# Altium schematic symbol library CONTROLLER_SCH_LIB.SchLib: 18 symbols
Pins are listed as number, name and electrical type; pins without a type are passive.

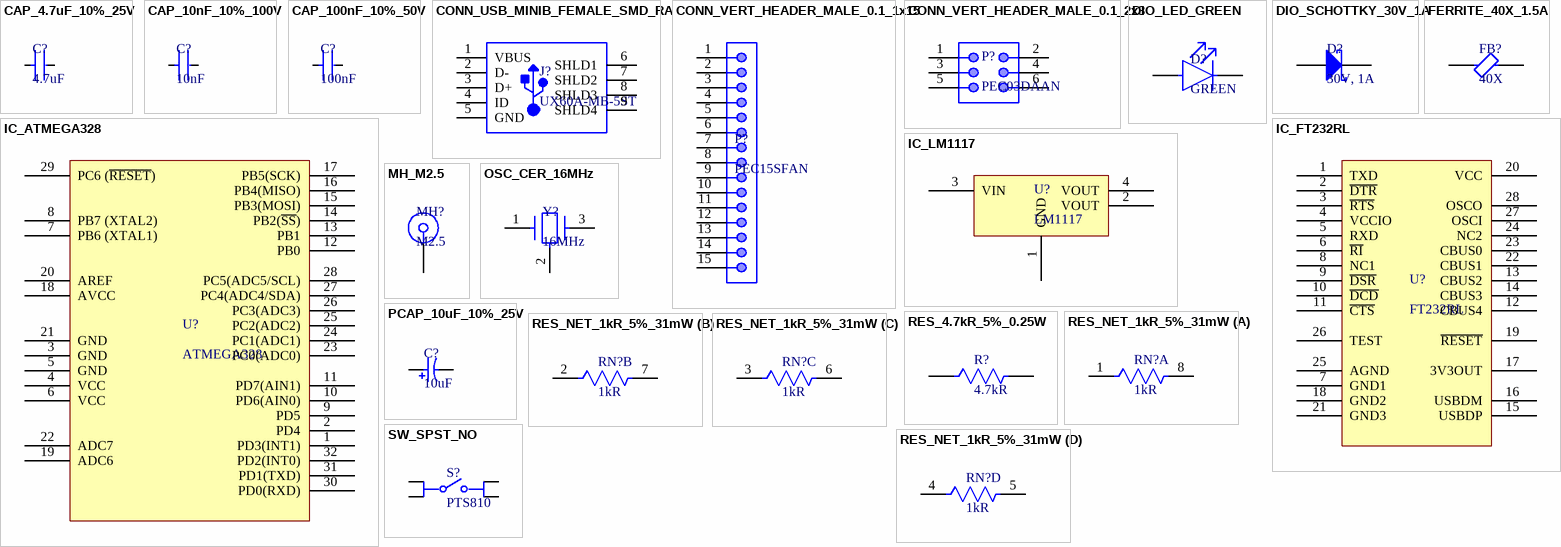
[diagram p0: symbols CAP_4.7uF_10%_25V to SW_SPST_NO]

## CAP_4.7uF_10%_25V
designator C?, comment 4.7uF
±10% 25V Ceramic Capacitor X5R 0603 (1608 Metric); Manufacturer: Murata Electronics; Manufacturer Part Number: GRT188R61E475KE13D; Supplier 1: Digi-Key; Supplier Part Number 1: 490-12328-1-ND; Case/Package: 0603 (1608 Metric)
footprint CAP_0603_MRT_GRT (Capacitor)
pins: 1, 2

## CAP_10nF_10%_100V
designator C?, comment 10nF
±10% 100V Ceramic Capacitor X7R 0603 (1608 Metric); Manufacturer: Murata Electronics; Manufacturer Part Number: GCM188R72A103KA37D; Supplier 1: Digi-Key; Supplier Part Number 1: 490-4781-1-ND; Case/Package: 0603 (1608 Metric)
footprint CAP_0603_MRT_GCM (Capacitor)
pins: 1, 2

## CAP_100nF_10%_50V
designator C?, comment 100nF
±10% 50V Ceramic Capacitor X7R 0603 (1608 Metric); Manufacturer: TDK Corporation; Manufacturer Part Number: CGA3E2X7R1H104K080AA; Supplier 1: Digi-Key; Supplier Part Number 1: 445-5666-1-ND; Case/Package: 0603 (1608 Metric)
footprint CAP_0603_TDK_CGA3 (Capacitor)
pins: 1, 2

## CONN_USB_MINIB_FEMALE_SMD_RA
designator J?, comment UX60A-MB-5ST
USB - mini B USB 2.0 Receptacle Connector 5 Position Surface Mount, Right Angle; Manufacturer: Hirose Electric Co LtdInc.; Manufacturer Part Number: UX60A-MB-5ST; Supplier 1: Digi-Key; Supplier Part Number 1: H2961CT-ND; Case/Package: USB - mini B
footprint CONN_USB_MINIB_FEMALE_SMD_RA (SMD, 5-Leads, Body 7.7x9mm, Pitch 0.8mm)
pins: 1 VBUS, 2 D-, 3 D+, 4 ID, 5 GND, 6 SHLD1, 7 SHLD2, 8 SHLD3, 9 SHLD4

## CONN_VERT_HEADER_MALE_0.1_1x15
designator P?, comment PEC15SFAN
Connector Header Through Hole 15 position 0.100" (2.54mm); Manufacturer: Sullins Connector Solutions; Manufacturer Part Number: PEC15SFAN; Supplier 1: Digi-Key; Supplier Part Number 1: S1212E-15-ND; Case/Package: Header, Breakaway
footprint CONN_HEADER_MALE_0.1_1x15 (Connector)
pins: 1, 2, 3, 4, 5 6, 6, 7, 8, 9, 10, 11, 12, 13, 14, 15

## CONN_VERT_HEADER_MALE_0.1_2x3
designator P?, comment PEC03DAAN
Connector Header Through Hole 6 position 0.100" (2.54mm); Manufacturer: Sullins Connector Solutions; Manufacturer Part Number: PEC03DAAN; Supplier 1: Digi-Key; Supplier Part Number 1: S2012E-03-ND; Case/Package: Header, Breakaway
footprint CONN_HEADER_MALE_0.1_2x3 (Connector)
pins: 1, 2, 3, 4, 5, 6

## DIO_LED_GREEN
designator D?, comment GREEN
Green 570nm LED Indication - Discrete 2.1V 0603 (1608 Metric); Manufacturer: Kingbright; Manufacturer Part Number: APT1608CGCK; Supplier 1: Digi-Key; Supplier Part Number 1: 754-1116-1-ND; Case/Package: 0603 (1608 Metric)
footprint DIO_LED_GREEN_1608_APT1608 (Diode, Green LED)
pins: 1, 2

## DIO_SCHOTTKY_30V_1A
designator D?, comment 30V, 1A
Diode Schottky 1A Surface Mount MicroSMP (DO-219AD); Manufacturer: Vishay General Semiconductor - Diodes Division; Manufacturer Part Number: MSS1P3L-M3/89A; Supplier 1: Digi-Key; Supplier Part Number 1: MSS1P3L-M3/89AGICT-ND; Case/Package: MicroSMP (DO-219AD)
footprint DIO_SCHOTTKY_DO_219AP (Diode, Schottky)
pins: A, K

## FERRITE_40X_1.5A
designator FB?, comment 40X
Power Line Ferrite Bead 0805 (2012 Metric) 1.5A 50mOhm; Manufacturer: Laird-Signal Integrity Products; Manufacturer Part Number: MI0805K400R-10; Supplier 1: Digi-Key; Supplier Part Number 1: 240-2389-1-ND; Case/Package: 0805 (2012 Metric)
footprint FERRITE_0805_LRD_MI (Ferrite Bead)
pins: 1, 2

## IC_ATMEGA328
designator U?, comment ATMEGA328
8-bit Microcontrollers - MCU AVR 32K FLSH 2K SRAM 1KB EE-20 MHZ 105C; Manufacturer: Microchip Technology / Atmel; Manufacturer Part Number: ATMEGA328P-AN; Supplier 1: Mouser Electronics; Supplier Part Number 1: 556-ATMEGA328P-AN; Case/Package: TQFP-32
footprint IC_32_TQFP_32A (Thin QFP, 32-Leads, Body 7x7mm, Pitch 0.8mm, IPC Low Density)
pins: 1 PD3(INT1), 2 PD4, 3 GND, 4 VCC, 5 GND, 6 VCC, 7 PB6 (XTAL1), 8 PB7 (XTAL2), 9 PD5, 10 PD6(AIN0), 11 PD7(AIN1), 12 PB0, 13 PB1, 14 PB2(~{SS}), 15 PB3(MOSI), 16 PB4(MISO), 17 PB5(SCK), 18 AVCC, 19 ADC6, 20 AREF, 21 GND, 22 ADC7, 23 PC0(ADC0), 24 PC1(ADC1), 25 PC2(ADC2), 26 PC3(ADC3), 27 PC4(ADC4/SDA), 28 PC5(ADC5/SCL), 29 PC6 (~{RESET}), 30 PD0(RXD), 31 PD1(TXD), 32 PD2(INT0)

## IC_FT232RL
designator U?, comment FT232RL
USB Bridge, USB to UART USB 2.0 UART Interface 28-SSOP; Manufacturer: FTDI, Future Technology Devices International Ltd; Manufacturer Part Number: FT232RL-REEL; Supplier 1: Digi-Key; Supplier Part Number 1: 768-1007-1-ND; Case/Package: 28-SSOP (0.209", 5.30mm Width)
footprint IC_SSOP_28 (Integrated Circuit)
pins: 1 TXD, 2 ~{DTR}, 3 ~{RTS}, 4 VCCIO, 5 RXD, 6 ~{RI}, 7 GND1, 8 NC1, 9 ~{DSR}, 10 ~{DCD}, 11 ~{CTS}, 12 CBUS4, 13 CBUS2, 14 CBUS3, 15 USBDP, 16 USBDM, 17 3V3OUT, 18 GND2, 19 ~{RESET}, 20 VCC, 21 GND3, 22 CBUS1, 23 CBUS0, 24 NC2, 25 AGND, 26 TEST, 27 OSCI, 28 OSCO

## IC_LM1117
designator U?, comment LM1117
Linear Voltage Regulator IC Positive Fixed Output 800mA SOT-223-4; Manufacturer: Texas Instruments; Manufacturer Part Number: LM1117IMPX-5.0/NOPB; Supplier 1: Digi-Key; Supplier Part Number 1: LM1117IMPX-5.0/NOPBCT-ND; Case/Package: TO-261-4, TO-261AA
footprint IC_SOT223_4_DCYRPDSOG4 (SOT223, 4-Leads, Body 6.7x3.7mm, Pitch 2.3mm, IPC Low Density)
pins: 1 GND, 2 VOUT, 3 VIN, 4 VOUT

## MH_M2.5
designator MH?, comment M2.5
M2.5 Mounting Hole
footprint MH_M2.5 (Mounting Holes, M2.5)
pins: 1

## OSC_CER_16MHz
designator Y?, comment 16MHz
Ceramic Resonator Built in Capacitor ±0.15% -40°C ~ 125°C Surface Mount; Manufacturer: Murata Electronics; Manufacturer Part Number: CSTNE16M0V53C000R0; Supplier 1: Digi-Key; Supplier Part Number 1: 490-17949-1-ND; Case/Package: 3-SMD, Non-Standard
footprint OSC_NONSTD_SMD3_MRT_CSTNE (Oscillator)
pins: 1 Input, 2 GND (power), 3 Output

## PCAP_10uF_10%_25V
designator C?, comment 10uF
Molded Tantalum Capacitors 1411 (3528 Metric) 1.1Ohm; Manufacturer: Vishay Sprague; Manufacturer Part Number: TR3B106K025C1100; Supplier 1: Digi-Key; Supplier Part Number 1: 718-1312-1-ND; Case/Package: 1411 (3528 Metric)
footprint PCAP_1411_VSH_TR3B (Polarized Capacitor)
pins: 1, 2

## RES_4.7kR_5%_0.25W
designator R?, comment 4.7kR
/ ±5% 0.25W, 1/4W Chip Resistor 0603 (1608 Metric) Automotive AEC-Q200, Pulse Withstanding Thick Film; Manufacturer: Rohm Semiconductor; Manufacturer Part Number: ESR03EZPJ472; Supplier 1: Digi-Key; Supplier Part Number 1: RHM4.7KDCT-ND; Case/Package: 0603 (1608 Metric)
footprint RES_0603_RHM_ESR (Resistor)
pins: 1, 2

## RES_NET_1kR_5%_31mW
designator RN?, comment 1kR
1k Ohm ±5% 31mW Power Per Element Isolated 4 Resistor Network/Array ±200ppm/°C 0502 (1406 Metric), Long Side Terminals; Manufacturer: Panasonic Electronic Components; Manufacturer Part Number: EXB-18V102JX; Supplier 1: Digi-Key; Supplier Part Number 1: Y6102CT-ND; Case/Package: 0502 (1406 Metric), Long Side Terminal
footprint RES_NET_0502_PNS_EXB (Resistor Network)
part A pins: 1, 8
part B pins: 2, 7
part C pins: 3, 6
part D pins: 4, 5

## SW_SPST_NO
designator S?, comment PTS810
Tactile Switch SPST-NO Top Actuated Surface Mount; Manufacturer: C&K; Manufacturer Part Number: PTS810 SJG 250 SMTR LFS; Supplier 1: Digi-Key; Supplier Part Number 1: CKN10504CT-ND; Case/Package: 4.20mm x 3.20mm
footprint SW_CAK_PTS810 (Switch)
pins: 1, 2, 3, 4